# EAGLE library part OMNETICS_A79041 (library harrison)
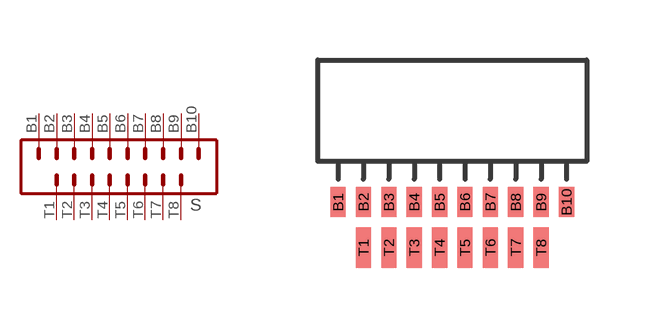
[diagram p46: symbol with the pads of OMNETICS_A79041; footprint OMNETICS_A79041]

Designator prefix S

## OMNETICS_A79041  [OMNETICS_A79041]
B1  B1  pas
B2  B2  pas
B3  B3  pas
B4  B4  pas
B5  B5  pas
B6  B6  pas
B7  B7  pas
B8  B8  pas
B9  B9  pas
B10  B10  pas
T1  T1  pas
T2  T2  pas
T3  T3  pas
T4  T4  pas
T5  T5  pas
T6  T6  pas
T7  T7  pas
T8  T8  pas

## Footprint OMNETICS_A79041 (pad centres in mm)
smd 0.381 x 0.762: B1 -2.857,-1.016; B2 -2.223,-1.016; B3 -1.587,-1.016; B4 -0.953,-1.016; B5 -0.318,-1.016; B6 0.318,-1.016; B7 0.953,-1.016; B8 1.587,-1.016; B9 2.223,-1.016; B10 2.857,-1.016
smd 0.381 x 1.016: T1 -2.223,-2.159; T2 -1.587,-2.159; T3 -0.953,-2.159; T4 -0.318,-2.159; T5 0.318,-2.159; T6 0.953,-2.159; T7 1.587,-2.159; T8 2.223,-2.159